# Altium footprint library TCA9548A.PcbLib: 1 footprints
Each footprint in its own frame and in the unit in brackets; x right, y up, seen from the top. Pads: shape width x height; smd on the part's side, far side on the other; paste and mask are expansions set on the pad; w line width, h text height; cw(c..) or ccw(c..) is an arc to the next point about the centre after c.
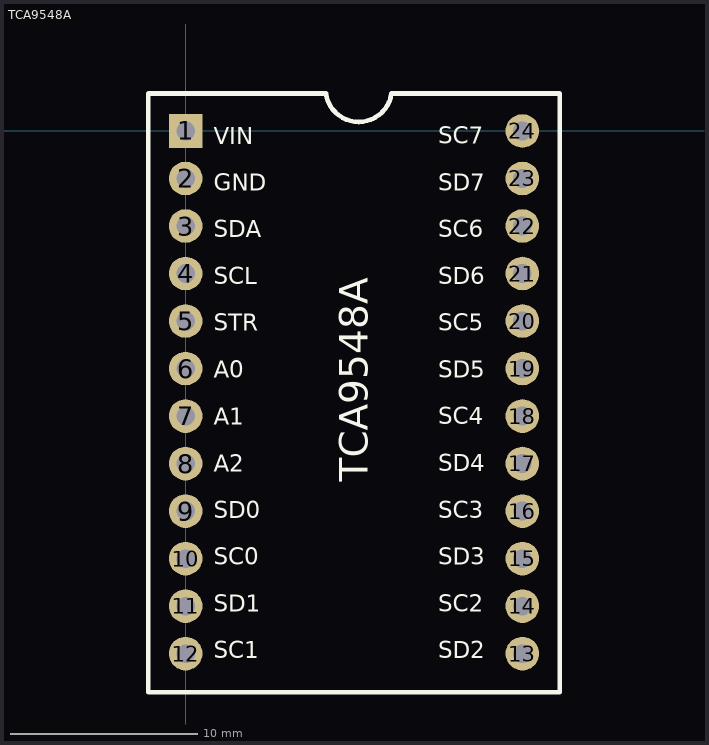
[diagram p0: the footprint, top view; thin cyan lines are the x and y axes]

## TCA9548A [mm]
pads (24):
  rect 1.8x1.8 hole 1 square: 1(0,0)
  round 1.8 hole 1: 2(0,-2.54) 3(0,-5.08) 4(0,-7.62) 5(0,-10.16) 6(0,-12.7) 7(0,-15.24) 8(0,-17.78) 9(0,-20.32) 10(0,-22.86) 11(0,-25.4) 12(0,-27.94) 13(18,-27.94) 14(18,-25.4) 15(18,-22.86) 16(18,-20.32) 17(18,-17.78) 18(18,-15.24) 19(18,-12.7) 20(18,-10.16) 21(18,-7.62) 22(18,-5.08) 23(18,-2.54) 24(18,0)
Top Overlay:
  lines w0.254: -2,-30 -2,2 7.5,2 ccw(c9.25,2.25) 11,2 20,2 20,-30 -2,-30
  text "TCA9548A" at 9.746,-18.746 h1.52
  text "SD2" at 13.5,-28.483 h1.52
  text "SC2" at 13.5,-25.983 h1.52
  text "SD3" at 13.5,-23.483 h1.52
  text "SC3" at 13.5,-20.983 h1.52
  text "SD4" at 13.5,-18.483 h1.52
  text "SC4" at 13.5,-15.983 h1.52
  text "SD5" at 13.5,-13.483 h1.52
  text "SC5" at 13.5,-10.983 h1.52
  text "SD6" at 13.5,-8.483 h1.52
  text "SC6" at 13.5,-5.983 h1.52
  text "SD7" at 13.5,-3.483 h1.52
  text "SC7" at 13.5,-0.983 h1.52
  text "SC1" at 1.5,-28.483 h1.52
  text "SD1" at 1.5,-25.983 h1.52
  text "SC0" at 1.5,-23.483 h1.52
  text "SD0" at 1.5,-20.983 h1.52
  text "A2" at 1.5,-18.5 h1.52
  text "A1" at 1.5,-16 h1.52
  text "A0" at 1.5,-13.483 h1.52
  text "STR" at 1.5,-10.983 h1.52
  text "SCL" at 1.5,-8.483 h1.52
  text "SDA" at 1.5,-5.983 h1.52
  text "GND" at 1.5,-3.483 h1.52
  text "VIN" at 1.501,-1 h1.52